# EAGLE library part DSUB25 (library sj_connectors)
25pin DSUB Connector
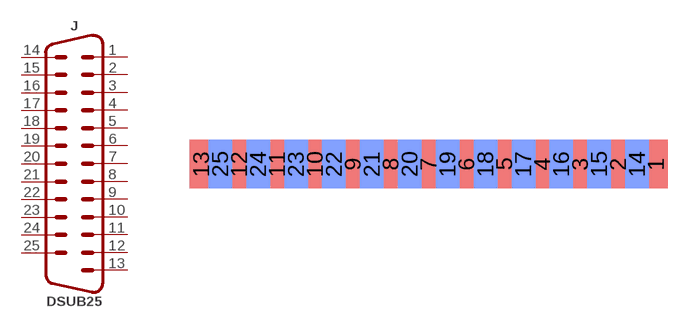
[diagram p16: symbol with the pads of DSUB25-SMD; footprint DSUB25-SMD]

Designator prefix J

## DSUB25-SMD  [DSUB25-SMD]
1  1  pas
2  2  pas
3  3  pas
4  4  pas
5  5  pas
6  6  pas
7  7  pas
8  8  pas
9  9  pas
10  10  pas
11  11  pas
12  12  pas
13  13  pas
14  14  pas
15  15  pas
16  16  pas
17  17  pas
18  18  pas
19  19  pas
20  20  pas
21  21  pas
22  22  pas
23  23  pas
24  24  pas
25  25  pas

## Footprint DSUB25-SMD (pad centres in mm)
DSUB25 SMD PAckage
smd 1.7 x 3.5: 1 16.459,-1.917; 2 13.716,-1.917; 3 10.973,-1.917; 4 8.23,-1.917; 5 5.486,-1.917; 6 2.743,-1.917; 7 0,-1.917; 8 -2.743,-1.917; 9 -5.486,-1.917; 10 -8.23,-1.917; 11 -10.973,-1.917; 12 -13.716,-1.917; 13 -16.459,-1.917
smd 1.7 x 3.5 bottom: 14 15.088,-1.918; 15 12.344,-1.918; 16 9.601,-1.918; 17 6.858,-1.918; 18 4.115,-1.918; 19 1.372,-1.918; 20 -1.372,-1.918; 21 -4.115,-1.918; 22 -6.858,-1.918; 23 -9.601,-1.918; 24 -12.344,-1.918; 25 -15.088,-1.918